# Altium footprint library PCB RGB ecran.PcbLib: 18 footprints (part 1 of 2)
Each footprint in its own frame and in the unit in brackets; x right, y up, seen from the top. Pads: shape width x height; smd on the part's side, far side on the other; paste and mask are expansions set on the pad; w line width, h text height; cw(c..) or ccw(c..) is an arc to the next point about the centre after c.
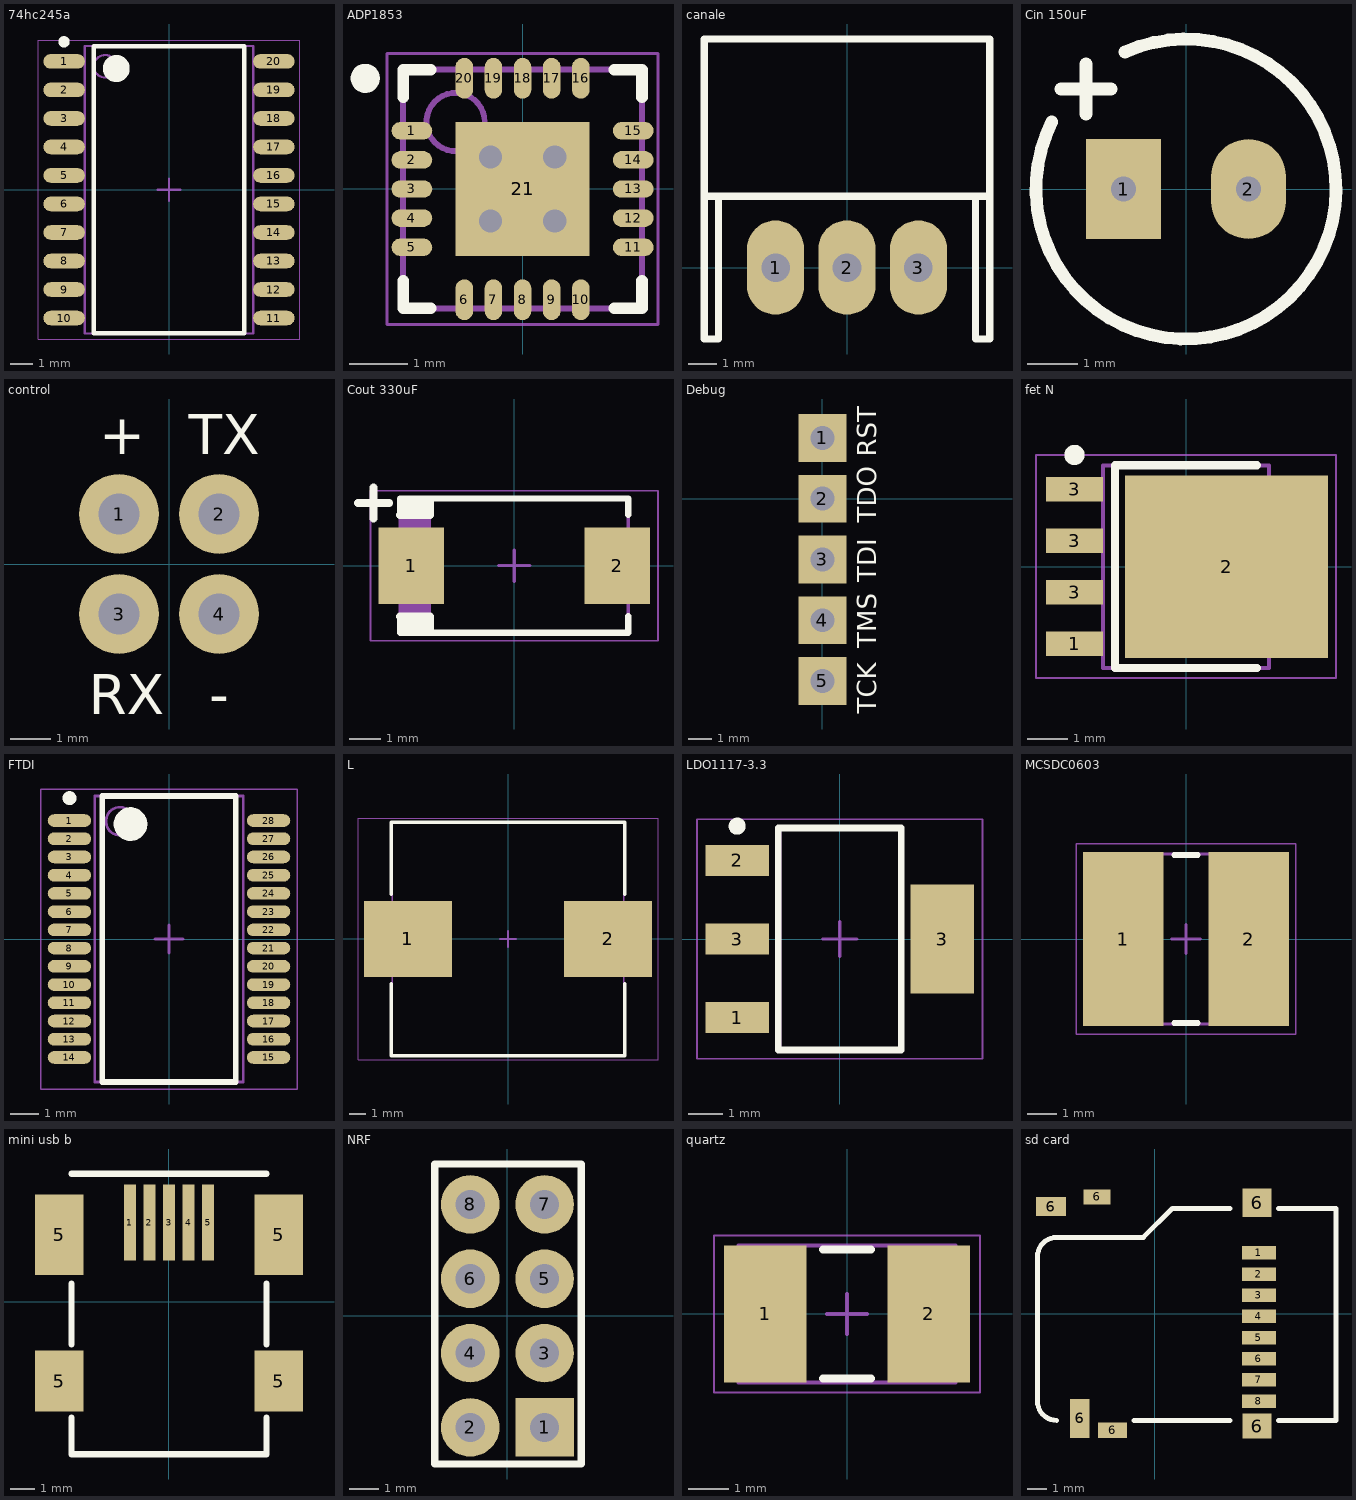
[diagram p0: the footprints below, top view; thin cyan lines are the x and y axes]

## 74hc245a [mm] "SOIC, 20-Leads, Body 12,80x7,50mm, Pitch 1,27mm, IPC Medium Density"
height 2.5
pads (20):
  oval 1.85x0.65 smd: 1(-4.675,5.715) 2(-4.675,4.445) 3(-4.675,3.175) 4(-4.675,1.905) 5(-4.675,0.635) 6(-4.675,-0.635) 7(-4.675,-1.905) 8(-4.675,-3.175) 9(-4.675,-4.445) 10(-4.675,-5.715) 11(4.675,-5.715) 12(4.675,-4.445) 13(4.675,-3.175) 14(4.675,-1.905) 15(4.675,-0.635) 16(4.675,0.635) 17(4.675,1.905) 18(4.675,3.175) 19(4.675,4.445) 20(4.675,5.715)
Top Overlay:
  circle w0.25: c-4.675,6.59 r0.125
  circle w0.6: c-2.35,5.4 r0.3
  lines w0.2: -3.35,-6.4 -3.35,6.4 3.35,6.4 3.35,-6.4 -3.35,-6.4
Mechanical 13:
  circle w0.1: c-2.85,5.5 r0.5
  lines w0.1: -3.75,-6.4 -3.75,6.4 3.75,6.4 3.75,-6.4 -3.75,-6.4
Mechanical 15:
  lines w0.05: -5.825,-6.65 -5.825,6.65 5.825,6.65 5.825,-6.65 -5.825,-6.65
  lines w0.1: -0.5,0 0.5,0 ; 0,-0.5 0,0.5
3D body: height 2.6, standoff 0, extent -5.3,-6.3 5.1,6.3

## ADP1853 [mm] "PQFN, 20-Leads, Body 4,10x4,10mm, Pitch 0,50mm, Thermal Pad 2,50x2,50mm, IPC Medium Density"
height 0.8
pads (21):
  oval 0.7x0.3 smd: 1(-1.9,1) 2(-1.9,0.5) 3(-1.9,0) 4(-1.9,-0.5) 5(-1.9,-1) 11(1.9,-1) 12(1.9,-0.5) 13(1.9,0) 14(1.9,0.5) 15(1.9,1)
  oval 0.3x0.7 smd: 6(-1,-1.9) 7(-0.5,-1.9) 8(0,-1.9) 9(0.5,-1.9) 10(1,-1.9) 16(1,1.9) 17(0.5,1.9) 18(0,1.9) 19(-0.5,1.9) 20(-1,1.9)
  rect 2.3x2.3 smd: 21(0,0)
via 0.55,-0.55 diameter 0.8 hole 0.4
via -0.55,-0.55 diameter 0.8 hole 0.4
via -0.55,0.55 diameter 0.8 hole 0.4
via 0.55,0.55 diameter 0.8 hole 0.4
Top Overlay:
  circle w0.25: c-2.7,1.9 r0.125
  lines w0.2: -2.05,-1.575 -2.05,-2.05 -1.575,-2.05 ; -2.05,1.575 -2.05,2.05 -1.575,2.05 ; 1.575,-2.05 2.05,-2.05 2.05,-1.575 ; 1.575,2.05 2.05,2.05 2.05,1.575
Mechanical 13:
  circle w0.1: c-1.15,1.15 r0.5
  lines w0.1: -2.05,-2.05 2.05,-2.05 2.05,2.05 -2.05,2.05 -2.05,-2.05
Mechanical 15:
  lines w0.05: -2.325,-2.325 2.325,-2.325 2.325,2.325 -2.325,2.325 -2.325,-2.325
  lines w0.1: -0.5,0 0.5,0 ; 0,-0.5 0,0.5
3D body: height 0.8, standoff 0.03, extent -2.05,-2.05 2.05,2.05

## canale [mm]
pads (3):
  oval 2x3.3 hole 1: 1(-2.5,0) 2(0,0) 3(2.5,0)
Top Overlay:
  lines w0.254: -5,2.5 5,2.5 ; -5,-2.5 -5,8 5,8 5,-2.5 4.5,-2.5 4.5,2.5 -4.5,2.5 -4.5,-2.5 -5,-2.5
3D body: height 6.1, standoff -2, extent -4.95,-2.3 4.95,9.2

## Cin 150uF [mm]
pads (2):
  rect 1.5x2 hole 0.5: 1(-1.25,0)
  oval 1.5x2 hole 0.5: 2(1.25,0)
Top Overlay:
  lines w0.254: -2.683,1.342 ccw(c0,0) -1.218,2.741 ; -2.5,2 -1.5,2 ; -2,1.5 -2,2.5
3D body: height 5.6, standoff 0.1, extent -2.96,-3.012 3.062,3.012

## control [mm]
pads (4):
  round 2 hole 1.016: 1(-1.25,1.25) 2(1.25,1.25) 3(-1.25,-1.25) 4(1.25,-1.25)
Top Overlay:
  text "+" at -1.75,2.75 h1
  text "TX" at 0.5,2.75 h1
  text "RX" at -2,-3.75 h1
  text "-" at 1,-3.75 h1

## Cout 330uF [mm] "Molded Capacitor, 2-Leads, Body 7,30x4,30mm, IPC Medium Density"
height 2.8
pads (2):
  rect 2.1x2.45 smd: 1(-3.3,0) 2(3.3,0)
Top Overlay:
  lines w0.2: -3.65,-1.625 -3.65,-2.15 3.65,-2.15 3.65,-1.625 ; -3.65,1.625 -3.65,2.15 3.65,2.15 3.65,1.625
  lines w0.254: -5,2 -4,2 ; -4.5,1.5 -4.5,2.5 ; -3.65,-1.625 -2.7,-1.625 -2.7,-2.1 -3.5,-2.1 ; -3.65,1.625 -2.7,1.625 -2.7,2 -3.5,2 -3.5,1.625 -2.8,1.625 -2.8,1.8 -3.4,1.8 ; -3,-2 -3,-1.8 -3.2,-1.8 -3.2,-2 -3.5,-2 -3.5,-2.1 ; -3.5,-2.1 -3.5,-1.8 -2.8,-1.8 -2.8,-2.1 -3.5,-2.1
Mechanical 13:
  rectangle: -3.65,-2.15 -2.668,2.15
  lines w0.1: -3.65,-2.15 -3.65,2.15 3.65,2.15 3.65,-2.15 -3.65,-2.15
Mechanical 15:
  lines w0.05: -4.6,-2.4 -4.6,2.4 4.6,2.4 4.6,-2.4 -4.6,-2.4
  lines w0.1: -0.5,0 0.5,0 ; 0,-0.5 0,0.5
3D body: height 2.8, standoff 0, extent -3.65,-2.15 3.65,2.15

## Debug [mm]
pads (5):
  rect 2x2 hole 1: 1(0,2.54) 2(0,0) 3(0,-2.54) 4(0,-5.08) 5(0,-7.62)
Top Overlay:
  text "TCK" at 2.25,-9 h0.8
  text "TMS" at 2.25,-6.25 h0.8
  text "TDO" at 2.25,-1 h0.8
  text "TDI" at 2.25,-3.5 h0.8
  text "RST" at 2.25,1.75 h0.8

## fet N [mm] "SOT223, 5-Leads, Body 4,90x6,00mm (avg), Pitch 1,27mm, IPC Medium Density"
height 1
pads (5):
  rect 1.4x0.6 smd: 1(-2.75,-1.905) 3(-2.75,-0.635) 3(-2.75,0.635) 3(-2.75,1.905)
  rect 5x4.5 smd: 2(1,0)
Top Overlay:
  circle w0.25: c-2.75,2.755 r0.125
  lines w0.2: 1.75,-2.5 -1.75,-2.5 -1.75,2.5 1.75,2.5
Mechanical 13:
  lines w0.1: -2.05,-2.5 2.05,-2.5 2.05,2.5 -2.05,2.5 -2.05,-2.5
Mechanical 15:
  lines w0.05: -3.7,-2.75 3.7,-2.75 3.7,2.75 -3.7,2.75 -3.7,-2.75
  lines w0.1: -0.5,0 0.5,0 ; 0,-0.5 0,0.5
3D body: height 1.13, standoff 0.03, extent -3.3,-2.5 3.3,2.5

## FTDI [mm] "SOP, 28-Leads, Body 10,20x5,30mm, Pitch 0,65mm, IPC Medium Density"
height 2
pads (28):
  oval 1.55x0.45 smd: 1(-3.55,4.225) 2(-3.55,3.575) 3(-3.55,2.925) 4(-3.55,2.275) 5(-3.55,1.625) 6(-3.55,0.975) 7(-3.55,0.325) 8(-3.55,-0.325) 9(-3.55,-0.975) 10(-3.55,-1.625) 11(-3.55,-2.275) 12(-3.55,-2.925) 13(-3.55,-3.575) 14(-3.55,-4.225) 15(3.55,-4.225) 16(3.55,-3.575) 17(3.55,-2.925) 18(3.55,-2.275) 19(3.55,-1.625) 20(3.55,-0.975) 21(3.55,-0.325) 22(3.55,0.325) 23(3.55,0.975) 24(3.55,1.625) 25(3.55,2.275) 26(3.55,2.925) 27(3.55,3.575) 28(3.55,4.225)
Top Overlay:
  circle w0.25: c-3.55,5.025 r0.125
  circle w0.6: c-1.375,4.1 r0.3
  lines w0.2: -2.375,-5.1 -2.375,5.1 2.375,5.1 2.375,-5.1 -2.375,-5.1
Mechanical 13:
  circle w0.1: c-1.75,4.2 r0.5
  lines w0.1: -2.65,-5.1 -2.65,5.1 2.65,5.1 2.65,-5.1 -2.65,-5.1
Mechanical 15:
  lines w0.05: -4.575,-5.35 -4.575,5.35 4.575,5.35 4.575,-5.35 -4.575,-5.35
  lines w0.1: -0.5,0 0.5,0 ; 0,-0.5 0,0.5
3D body: height 1.95, standoff -0.05, extent -3.906,-5.1 3.906,5.1

## L [mm] "Molded Inductor, 2-Leads, Body 13,80x13,80mm, IPC Medium Density"
height 7
pads (2):
  rect 5.3x4.55 smd: 1(-6,0) 2(6,0)
Top Overlay:
  lines w0.2: -7,-2.675 -7,-7 7,-7 7,-2.675 ; -7,2.675 -7,7 7,7 7,2.675
Mechanical 13:
  lines w0.1: -6.95,-6.95 6.95,-6.95 6.95,6.95 -6.95,6.95 -6.95,-6.95
Mechanical 15:
  lines w0.05: -9,-7.25 9,-7.25 9,7.25 -9,7.25 -9,-7.25
  lines w0.1: -0.5,0 0.5,0 ; 0,-0.5 0,0.5
3D body: height 7, standoff 0, extent -6.85,-6.872 6.85,6.821

## LDO1117-3.3 [mm] "SOT223, 4-Leads, Body 6,50x7,00mm (avg), Pitch 2,30mm, IPC Medium Density"
height 1.8
pads (4):
  rect 1.85x0.9 smd: 1(-3,-2.3) 2(-3,2.3) 3(-3,0)
  rect 1.85x3.2 smd: 3(3,0)
Top Overlay:
  circle w0.25: c-3,3.3 r0.125
  lines w0.2: -1.8,-3.25 -1.8,3.25 1.8,3.25 1.8,-3.25 -1.8,-3.25
Mechanical 13:
  lines w0.1: -1.75,-3.25 -1.75,3.25 1.75,3.25 1.75,-3.25 -1.75,-3.25
Mechanical 15:
  lines w0.05: -4.175,-3.5 -4.175,3.5 4.175,3.5 4.175,-3.5 -4.175,-3.5
  lines w0.1: -0.5,0 0.5,0 ; 0,-0.5 0,0.5
3D body: height 1.65, standoff 0, extent -3.543,-3.25 3.544,3.25

## MCSDC0603 [mm] "Chip Capacitor, 2-Leads, Body 6.00x5.80mm, IPC Medium Density"
height 3.9
pads (2):
  rect 2.75x5.95 smd: 1(-2.15,0) 2(2.15,0)
Top Overlay:
  lines w0.2: -0.4,-2.875 0.4,-2.875 ; -0.4,2.875 0.4,2.875
Mechanical 13:
  lines w0.1: -3,-2.9 -3,2.9 3,2.9 3,-2.9 -3,-2.9
Mechanical 15:
  lines w0.05: -3.75,-3.25 -3.75,3.25 3.75,3.25 3.75,-3.25 -3.75,-3.25
  lines w0.1: -0.5,0 0.5,0 ; 0,-0.5 0,0.5
3D body: height 3.9, standoff 0, extent -0.8,-2.9 0.8,2.9
3D body: height 3.9, standoff 0, extent -3,-2.9 -0.8,2.9
3D body: height 3.9, standoff 0, extent 0.8,-2.9 3,2.9

## mini usb b [mm]
pads (9):
  rect 0.5x3.1 smd: 1(-1.6,3.25) 2(-0.8,3.25) 3(0,3.25) 4(0.8,3.25) 5(1.6,3.25)
  rect 2x2.5 smd: 5(-4.5,-3.25) 5(4.5,-3.25)
  rect 2x3.3 smd: 5(-4.5,2.75) 5(4.5,2.75)
Top Overlay:
  lines w0.254: -4,-4.75 -4,-6.25 4,-6.25 4,-4.75 ; -4,-1.75 -4,0.75 ; -4,5.25 4,5.25 ; 4,-1.75 4,0.75
3D body: height 3.93, standoff -1, extent -5.05,-5.9 4.85,3.35

## NRF [mm]
pads (8):
  rect 2x2 hole 1: 1(1.27,-3.81)
  round 2 hole 1: 2(-1.27,-3.81) 3(1.27,-1.27) 4(-1.27,-1.27) 5(1.27,1.27) 6(-1.27,1.27) 7(1.27,3.81) 8(-1.27,3.81)
Top Overlay:
  lines w0.254: -2.48,-5.06 2.52,-5.06 2.52,5.19 -2.48,5.19 -2.48,-5.06
3D body: height 6, standoff 0, extent -2.5,-5 2.5,5.25
3D body: height 7, standoff 6, extent -26.5,-5 2.5,10

## quartz [mm] "Chip Resistor, 2-Leads, Body 5,20x3,30mm, IPC Medium Density"
height 1.3
pads (2):
  rect 2.05x3.4 smd: 1(-2.025,0) 2(2.025,0)
Top Overlay:
  lines w0.2: -0.6,-1.6 0.6,-1.6 ; -0.6,1.6 0.6,1.6
Mechanical 13:
  lines w0.1: -2.7,-1.7 2.7,-1.7 2.7,1.7 -2.7,1.7 -2.7,-1.7
Mechanical 15:
  lines w0.05: -3.3,-1.95 3.3,-1.95 3.3,1.95 -3.3,1.95 -3.3,-1.95
  lines w0.1: -0.5,0 0.5,0 ; 0,-0.5 0,0.5
3D body: height 1.3, standoff 0, extent 1.3,-1.7 2.7,1.7
3D body: height 1.3, standoff 0, extent -2.7,-1.7 -1.3,1.7
3D body: height 1.3, standoff 0, extent -1.3,-1.7 1.3,1.7

## sd card [mm]
pads (14):
  rect 1.75x0.7 smd: 1(5.4,3.15) 2(5.4,2.05) 3(5.4,0.95) 4(5.4,-0.15) 5(5.4,-1.25) 6(5.4,-2.35) 7(5.4,-3.45) 8(5.4,-4.55)
  rect 1.55x1 smd: 6(-5.4,5.55)
  rect 1x2 smd: 6(-3.9,-5.45)
  rect 1.4x0.8 smd: 6(-3,6.05)
  rect 1.5x0.8 smd: 6(-2.2,-6.05)
  rect 1.5x1.3 smd: 6(5.3,-5.85)
  rect 1.5x1.5 smd: 6(5.3,5.75)
Top Overlay:
  lines w0.254: -5.1,-5.55 cw(c-5.1,-4.55) -6.1,-4.55 -6.1,2.95 cw(c-5.1,2.95) -5.1,3.95 ; -1.1,-5.55 3.9,-5.55 ; 3.9,5.45 0.9,5.45 -0.6,3.95 -5.1,3.95 ; 6.4,-5.55 9.4,-5.55 9.4,5.45 6.4,5.45 ; -5.1,3.95 -5.1,3.95
3D body: height 0.95, standoff -0.03, extent -5.7,-5.7 9.3,5.3